# EAGLE library part SG3525AN (library Namenlos)
REGULATING PULSE WIDTH MODULATORS
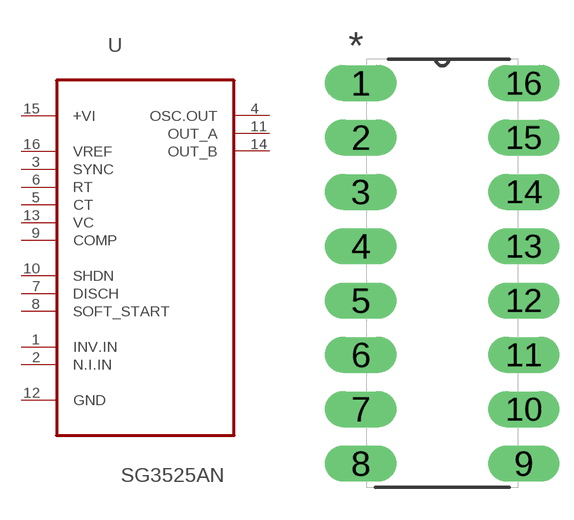
[diagram p46: symbol with the pads of DIP254P762X510-16; footprint DIP254P762X510-16]

Designator prefix U

## SG3525AN (MPN: SG3525AN; OC_FARNELL: 1564368; OC_NEWARK: 89K1506; PACKAGE: PDIP-16; SUPPLIER: STMICROELECTRONICS)  [DIP254P762X510-16]
1  INV.IN  in
2  N.I.IN  in
3  SYNC  pas
4  OSC.OUT  out
5  CT  pas
6  RT  pas
7  DISCH  pas
8  SOFT_START  pas
9  COMP  pas
10  SHDN  in
11  OUT_A  out
12  GND  pas
13  VC  pas
14  OUT_B  out
15  +VI  pwr
16  VREF  pas

## Footprint DIP254P762X510-16 (pad centres in mm)
drill 0.9 pad 1.676 long: 1 -3.81,8.89; 2 -3.81,6.35; 3 -3.81,3.81; 4 -3.81,1.27; 5 -3.81,-1.27; 6 -3.81,-3.81; 7 -3.81,-6.35; 8 -3.81,-8.89; 9 3.81,-8.89; 10 3.81,-6.35; 11 3.81,-3.81; 12 3.81,-1.27; 13 3.81,1.27; 14 3.81,3.81; 15 3.81,6.35; 16 3.81,8.89